# Altium footprint library PcbLib.Autolabor.PcbLib: 20 footprints (part 2 of 2)
Each footprint in its own frame and in the unit in brackets; x right, y up, seen from the top. Pads: shape width x height; smd on the part's side, far side on the other; paste and mask are expansions set on the pad; w line width, h text height; cw(c..) or ccw(c..) is an arc to the next point about the centre after c.
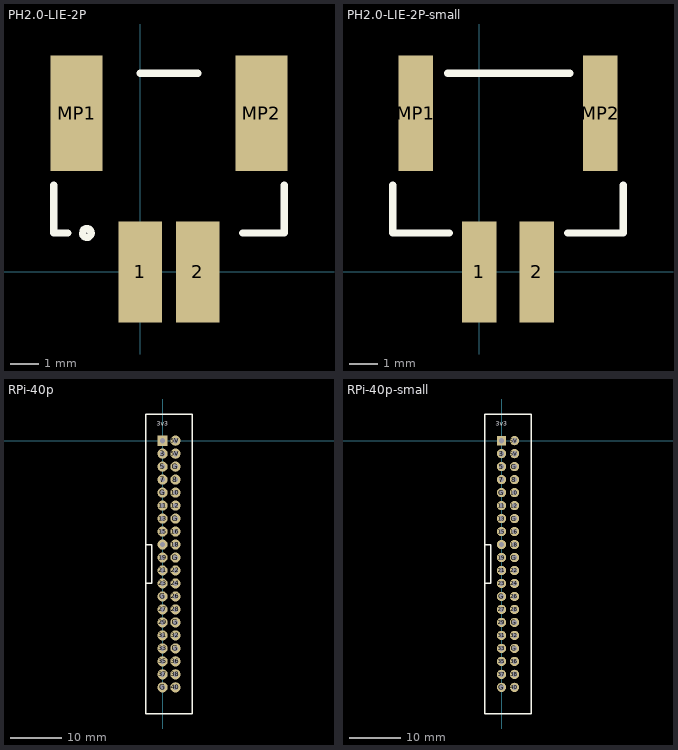
[diagram p1: the footprints below, top view; thin cyan lines are the x and y axes]

## PH2.0-LIE-2P [mm]
pads (4):
  rect 1.5x3.5 smd: 1(0,0) 2(2,0)
  rect 1.8x4 smd: MP1(-2.2,5.5) MP2(4.2,5.5)
Top Overlay:
  lines w0.254: -3,2.994 -3,1.35 ; -3,3 -3,1.35 ; -2.5,1.35 -3,1.35 ; -2,1.35 ccw(c-1.85,1.35) -1.975,1.433 ; 0,6.88 2,6.88 ; 0,6.883 2,6.883 ; 0.886,6.88 1.121,6.88 ; 3.55,1.35 5,1.35 ; 5,2.1 5,1.35 ; 5,3.001 5,1.35

## PH2.0-LIE-2P-small [mm]
pads (4):
  rect 1.2x3.5 smd: 1(0,0) 2(2,0)
  rect 1.2x4 smd: MP1(-2.2,5.5) MP2(4.2,5.5)
Top Overlay:
  lines w0.254: -3,2.994 -3,1.35 ; -3,3 -3,1.35 ; -1.092,6.883 3.15,6.883 ; -1.041,1.35 -3,1.35 ; 0,6.88 2,6.88 ; 0.886,6.88 1.121,6.88 ; 3.073,1.35 5,1.35 ; 5,2.1 5,1.35 ; 5,3.001 5,1.35

## RPi-40p [mm]
pads (40):
  round 2 hole 1.02: 3(0,-2.54) 3V3(0,-20.32) 5(0,-5.08) 5V(2.54,-2.54) 5V(2.54,0) 7(0,-7.62) 8(2.54,-7.62) 10(2.54,-10.16) 11(0,-12.7) 12(2.54,-12.7) 13(0,-15.24) 15(0,-17.78) 16(2.54,-17.78) 18(2.54,-20.32) 19(0,-22.86) 21(0,-25.4) 22(2.54,-25.4) 23(0,-27.94) 24(2.54,-27.94) 26(2.54,-30.48) 27(0,-33.02) 28(2.54,-33.02) 29(0,-35.56) 31(0,-38.1) 32(2.54,-38.1) 33(0,-40.64) 35(0,-43.18) 36(2.54,-43.18) 37(0,-45.72) 38(2.54,-45.72) 40(2.54,-48.26) G(0,-48.26) G(0,-30.48) G(0,-10.16) G(2.54,-40.64) G(2.54,-35.56) G(2.54,-22.86) G(2.54,-15.24) G(2.54,-5.08)
  rect 2x2 hole 1.02: 3V3(0,0)
Top Overlay:
  lines w0.254: -3.28,-53.05 -3.28,-51.8 ; -3.28,-52.5 -3.28,-53.48 0,-53.48 2.54,-53.48 ; -3.28,-52.23 -3.28,0.55 ; -3.28,-27.94 -2.15,-27.94 ; -3.28,-20.32 -2.15,-20.32 -2.15,-27.9 ; -3.28,0 -3.28,3.05 -3.28,5.22 5.82,5.22 5.82,2.85 5.82,-52.23 ; 0.4,-53.48 5.82,-53.48 5.82,-52.7 5.82,-52
  text "3v3" at -1.1,2.65 h1.52

## RPi-40p-small [mm]
pads (40):
  round 1.8 hole 1.02: 3(0,-2.54) 3V3(0,-20.32) 5(0,-5.08) 5V(2.54,-2.54) 5V(2.54,0) 7(0,-7.62) 8(2.54,-7.62) 10(2.54,-10.16) 11(0,-12.7) 12(2.54,-12.7) 13(0,-15.24) 15(0,-17.78) 16(2.54,-17.78) 18(2.54,-20.32) 19(0,-22.86) 21(0,-25.4) 22(2.54,-25.4) 23(0,-27.94) 24(2.54,-27.94) 26(2.54,-30.48) 27(0,-33.02) 28(2.54,-33.02) 29(0,-35.56) 31(0,-38.1) 32(2.54,-38.1) 33(0,-40.64) 35(0,-43.18) 36(2.54,-43.18) 37(0,-45.72) 38(2.54,-45.72) 40(2.54,-48.26) G(0,-48.26) G(0,-30.48) G(0,-10.16) G(2.54,-40.64) G(2.54,-35.56) G(2.54,-22.86) G(2.54,-15.24) G(2.54,-5.08)
  rect 1.8x1.8 hole 1.02: 3V3(0,0)
Top Overlay:
  lines w0.254: -3.28,-53.05 -3.28,-51.8 ; -3.28,-52.5 -3.28,-53.48 0,-53.48 2.54,-53.48 ; -3.28,-52.23 -3.28,0.55 ; -3.28,-27.94 -2.15,-27.94 ; -3.28,-20.32 -2.15,-20.32 -2.15,-27.9 ; -3.28,0 -3.28,3.05 -3.28,5.22 5.82,5.22 5.82,2.85 5.82,-52.23 ; 0.4,-53.48 5.82,-53.48 5.82,-52.7 5.82,-52
  text "3v3" at -1.1,2.65 h1.52